# EAGLE library part RPI-HAT (library rpi)
Raspberry Pi hat board https://github.com/raspberrypi/hats/blob/master/hat-board-mechanical.pdf?raw=true
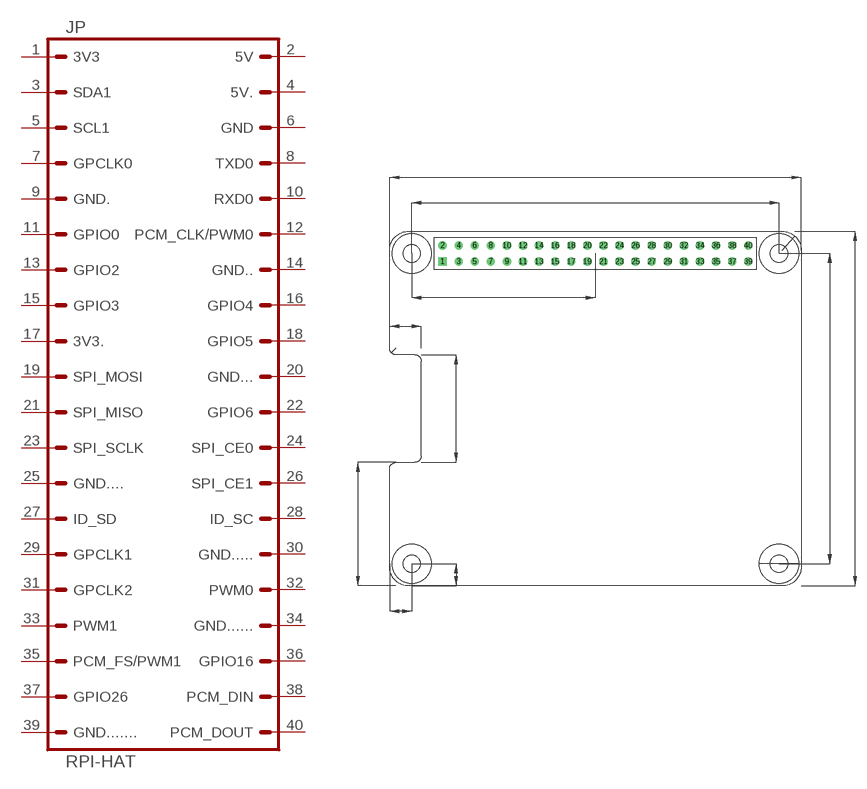
[diagram p0: symbol with the pads of RPI-HAT; footprint RPI-HAT]

Designator prefix JP

## RPI-HAT  [RPI-HAT]
1  3V3  pas
2  5V  pas
3  SDA1  pas
4  5V.  pas
5  SCL1  pas
6  GND  pas
7  GPCLK0  pas
8  TXD0  pas
9  GND.  pas
10  RXD0  pas
11  GPIO0  pas
12  PCM_CLK/PWM0  pas
13  GPIO2  pas
14  GND..  pas
15  GPIO3  pas
16  GPIO4  pas
17  3V3.  pas
18  GPIO5  pas
19  SPI_MOSI  pas
20  GND...  pas
21  SPI_MISO  pas
22  GPIO6  pas
23  SPI_SCLK  pas
24  SPI_CE0  pas
25  GND....  pas
26  SPI_CE1  pas
27  ID_SD  pas
28  ID_SC  pas
29  GPCLK1  pas
30  GND.....  pas
31  GPCLK2  pas
32  PWM0  pas
33  PWM1  pas
34  GND......  pas
35  PCM_FS/PWM1  pas
36  GPIO16  pas
37  GPIO26  pas
38  PCM_DIN  pas
39  GND.......  pas
40  PCM_DOUT  pas

## Footprint RPI-HAT (pad centres in mm)
Raspberry Pi hat board https://github.com/raspberrypi/hats/blob/master/hat-board-mechanical.pdf?raw=true
drill 0.8 square: 1 -24.13,-1.27
drill 0.8: 2 -24.13,1.27; 3 -21.59,-1.27; 4 -21.59,1.27; 5 -19.05,-1.27; 6 -19.05,1.27; 7 -16.51,-1.27; 8 -16.51,1.27; 9 -13.97,-1.27; 10 -13.97,1.27; 11 -11.43,-1.27; 12 -11.43,1.27; 13 -8.89,-1.27; 14 -8.89,1.27; 15 -6.35,-1.27; 16 -6.35,1.27; 17 -3.81,-1.27; 18 -3.81,1.27; 19 -1.27,-1.27; 20 -1.27,1.27; 21 1.27,-1.27; 22 1.27,1.27; 23 3.81,-1.27; 24 3.81,1.27; 25 6.35,-1.27; 26 6.35,1.27; 27 8.89,-1.27; 28 8.89,1.27; 29 11.43,-1.27; 30 11.43,1.27; 31 13.97,-1.27; 32 13.97,1.27; 33 16.51,-1.27; 34 16.51,1.27; 35 19.05,-1.27; 36 19.05,1.27; 37 21.59,-1.27; 38 21.59,1.27; 39 24.13,-1.27; 40 24.13,1.27
hole 2.75 at -29,0
hole 2.75 at 29,0
hole 2.75 at 29,-49
hole 2.75 at -29,-49